# EAGLE library part MQ-2 (library robocraft)
MQ-2 gas sensor Sensitive material of MQ-2 gas sensor is SnO2, which with lower conductivity in clean air. When the target combustible gas exist, The sensor’s conductivity is more higher along with the gas concentration rising. Please use simple electrocircuit, Convert change of conductivity to correspond output signal of gas concentration. MQ-2 gas sensor has high sensitity to LPG, Propane and Hydrogen, also could be used to Methane and other combustible steam, it is with low cost and suitable for different application. Datasheet http://www.seeedstudio.com/depot/datasheet/MQ-2.pdf Wiring Links http://playground.arduino.cc/Main/MQGasSensors
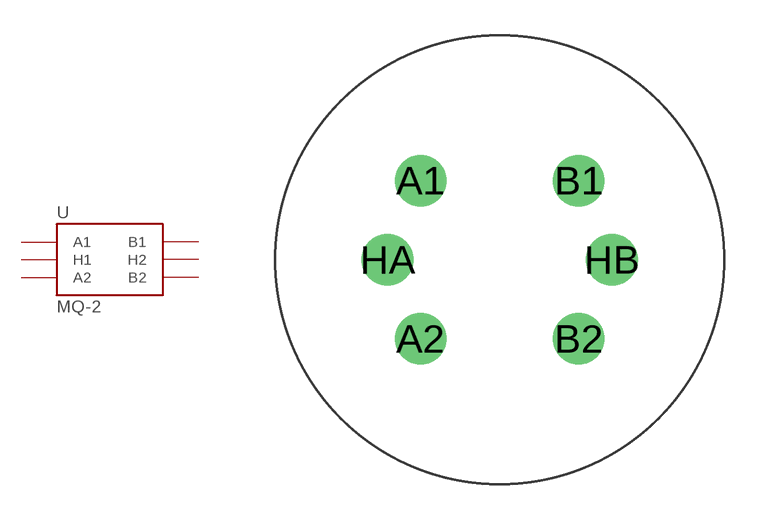
[diagram p0: symbol with the pads of MQ-2; footprint MQ-2]

Designator prefix U

## MQ-2  [MQ-2]
A1  A1
A2  A2
B1  B1
B2  B2
HA  H1
HB  H2

## Footprint MQ-2 (pad centres in mm)
MQ-2 sensor
drill 1.2 pad 2.184: A1 -3.35,3.35; A2 -3.35,-3.35; B1 3.35,3.35; B2 3.35,-3.35; HA -4.75,0; HB 4.75,0